# Altium schematic symbol library PNP_PRE_BIAS.SchLib: 1 symbol
Pins are listed as number, name and electrical type; pins without a type are passive.

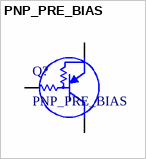
[diagram p0: symbol PNP_PRE_BIAS]

## PNP_PRE_BIAS
designator Q?
pins: 1 B, 2 E, 3 C